# Altium footprint library MH2X8_2mm_BORDE.PcbLib: 1 footprints
Each footprint in its own frame and in the unit in brackets; x right, y up, seen from the top. Pads: shape width x height; smd on the part's side, far side on the other; paste and mask are expansions set on the pad; w line width, h text height; cw(c..) or ccw(c..) is an arc to the next point about the centre after c.
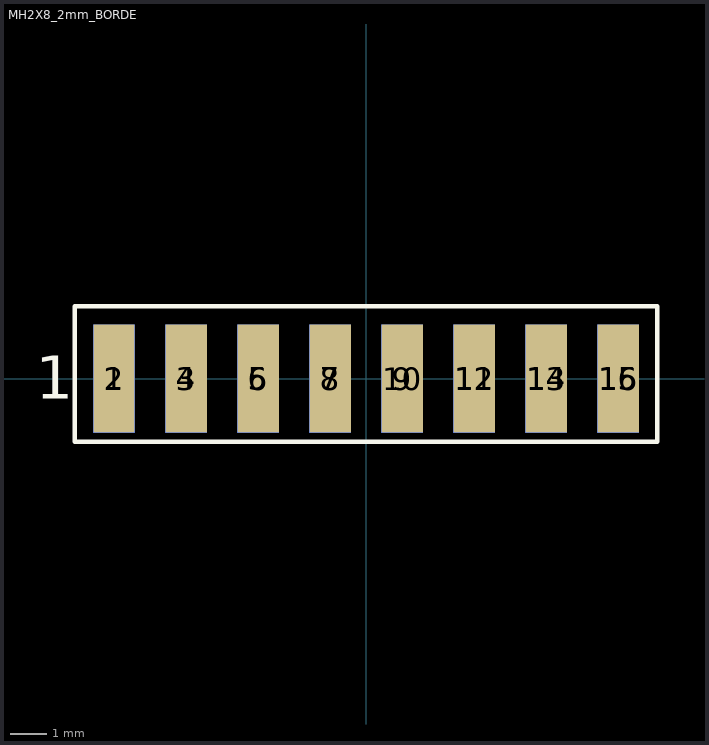
[diagram p0: the footprint, top view; thin cyan lines are the x and y axes]

## MH2X8_2mm_BORDE [mm]
pads (16):
  rect 1.15x3 smd: 1(-7,0) 3(-5,0) 5(-3,0) 7(-1,0) 9(1,0) 11(3,0) 13(5,0) 15(7,0)
  rect 1.15x3 smd far side: 2(-7,0) 4(-5,0) 6(-3,0) 8(-1,0) 10(1,0) 12(3,0) 14(5,0) 16(7,0)
Top Overlay:
  lines w0.127: -8.091,-1.753 8.091,-1.753 8.091,2.014 -8.091,2.014 -8.091,-1.753
  text "1" at -9.172,-0.559 h1.2
Bottom Overlay:
  lines w0.127: -8.091,-1.753 8.091,-1.753 8.091,2.014 -8.091,2.014 -8.091,-1.753
  text "2" at -8.563,-0.559 h1.2
3D body "pin_header_a-sl200-dg-g16d.stp": height 2, standoff -2, extent -8.001,-7.854 7.899,0.946